# Altium footprint library Devindia_v2.0.PcbLib: 105 footprints (part 7 of 7)
Each footprint in its own frame and in the unit in brackets; x right, y up, seen from the top. Pads: shape width x height; smd on the part's side, far side on the other; paste and mask are expansions set on the pad; w line width, h text height; cw(c..) or ccw(c..) is an arc to the next point about the centre after c.
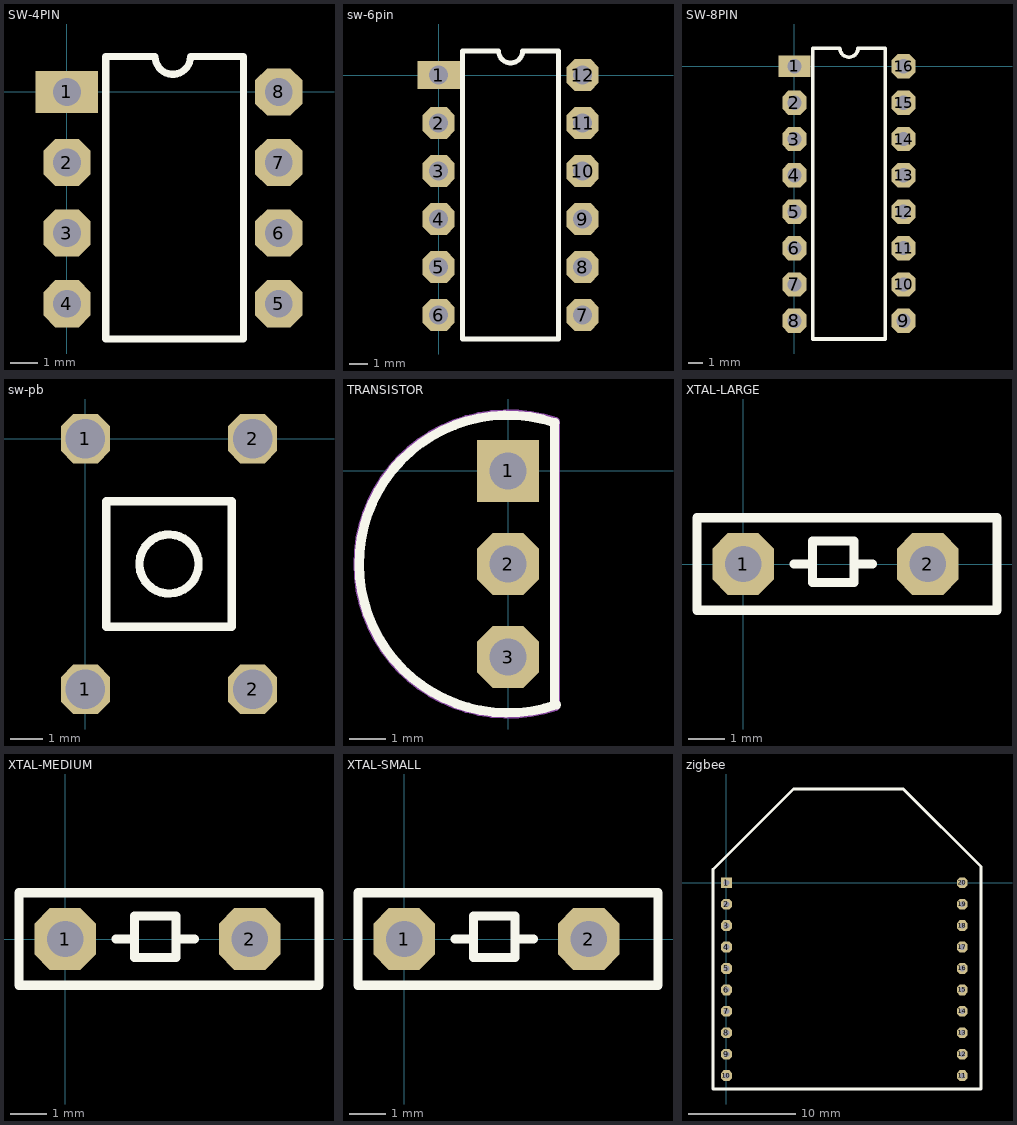
[diagram p6: the footprints below, top view; thin cyan lines are the x and y axes]

## SW-4PIN [mm]
pads (8):
  rect 2.25x1.5 hole 1: 1(0,0)
  oct 1.7x1.7 hole 1: 2(0,-2.54) 3(0,-5.08) 4(0,-7.62) 5(7.62,-7.62) 6(7.62,-5.08) 7(7.62,-2.54) 8(7.62,0)
Top Overlay:
  lines w0.254: 1.397,-8.89 6.35,-8.89 6.35,1.27 4.445,1.27 cw(c3.81,1.27) 3.175,1.27 1.397,1.27 1.397,-8.89
3D body: height 3, standoff 1, extent 1.27,-8.763 6.35,1.397
3D body: height 4, standoff 1, extent 2.794,-3.048 4.826,-2.286
3D body: height 4, standoff 1, extent 2.794,-0.762 4.826,0
3D body: height 4, standoff 1, extent 2.794,-7.874 4.826,-7.112
3D body: height 4, standoff 1, extent 2.794,-5.588 4.826,-4.826
3D body: height 4.5, standoff 4, extent 3.429,-0.508 4.191,-0.254
3D body: height 4.5, standoff 4, extent 3.429,-2.794 4.191,-2.54
3D body: height 4.5, standoff 4, extent 3.429,-5.334 4.191,-5.08
3D body: height 4.5, standoff 4, extent 3.429,-7.62 4.191,-7.366

## sw-6pin [mm]
pads (12):
  rect 2.25x1.5 hole 1: 1(0,0)
  oct 1.7x1.7 hole 1: 2(0,-2.54) 3(0,-5.08) 4(0,-7.62) 5(0,-10.16) 6(0,-12.7) 7(7.62,-12.7) 8(7.62,-10.16) 9(7.62,-7.62) 10(7.62,-5.08) 11(7.62,-2.54) 12(7.62,0)
Top Overlay:
  lines w0.254: 1.27,-13.97 1.27,1.27 3.175,1.27 ccw(c3.81,1.27) 4.445,1.27 6.35,1.27 6.35,-13.97 1.27,-13.97
3D body: height 4.5, standoff 4, extent 3.429,-12.7 4.191,-12.446
3D body: height 4.5, standoff 4, extent 3.429,-10.414 4.191,-10.16
3D body: height 4.5, standoff 4, extent 3.429,-7.62 4.191,-7.366
3D body: height 4.5, standoff 4, extent 3.429,-5.08 4.191,-4.826
3D body: height 4.5, standoff 4, extent 3.429,-2.54 4.191,-2.286
3D body: height 4.5, standoff 4, extent 3.429,-0.254 4.191,0
3D body: height 4, standoff 1, extent 2.794,-7.874 4.826,-7.112
3D body: height 3, standoff 1, extent 1.27,-13.97 6.35,1.27
3D body: height 3, standoff 1, extent 6.35,-0.508 7.62,0.508
3D body: height 3, standoff 1, extent 6.35,-3.048 7.62,-2.032
3D body: height 3, standoff 1, extent 6.35,-5.588 7.62,-4.572
3D body: height 3, standoff 1, extent 6.35,-8.128 7.62,-7.112
3D body: height 3, standoff 0, extent 7.132,-0.499 8.128,0.499
3D body: height 3, standoff 0, extent 7.132,-3.039 8.128,-2.041
3D body: height 3, standoff 0, extent 7.132,-5.579 8.128,-4.581
3D body: height 3, standoff 0, extent 7.132,-8.119 8.128,-7.121
3D body: height 4, standoff 1, extent 2.794,-2.794 4.826,-2.032
3D body: height 4, standoff 1, extent 2.794,-0.508 4.826,0.254
3D body: height 4, standoff 1, extent 2.794,-5.334 4.826,-4.572
3D body: height 3, standoff 1, extent 6.35,-10.668 7.62,-9.652
3D body: height 3, standoff 0, extent 7.132,-10.659 8.128,-9.661
3D body: height 3, standoff 1, extent 6.35,-13.208 7.62,-12.192
3D body: height 3, standoff 0, extent 7.132,-13.199 8.128,-12.201
3D body: height 3, standoff 1, extent 0,-13.208 1.27,-12.192
3D body: height 3, standoff 0, extent -0.488,-13.199 0.508,-12.201
3D body: height 3, standoff 1, extent 0,-10.668 1.27,-9.652
3D body: height 3, standoff 0, extent -0.488,-10.659 0.508,-9.661
3D body: height 3, standoff 1, extent 0,-8.128 1.27,-7.112
3D body: height 3, standoff 0, extent -0.488,-8.119 0.508,-7.121
3D body: height 3, standoff 1, extent 0,-5.588 1.27,-4.572
3D body: height 3, standoff 0, extent -0.488,-5.579 0.508,-4.581
3D body: height 3, standoff 1, extent 0,-3.048 1.27,-2.032
3D body: height 3, standoff 0, extent -0.488,-3.039 0.508,-2.041
3D body: height 3, standoff 0, extent -0.488,-0.499 0.508,0.499
3D body: height 3, standoff 1, extent 0,-0.508 1.27,0.508
3D body: height 4, standoff 1, extent 2.794,-12.954 4.826,-12.192
3D body: height 4, standoff 1, extent 2.794,-10.668 4.826,-9.906

## SW-8PIN [mm]
pads (16):
  rect 2.25x1.5 hole 1: 1(0,0)
  oct 1.7x1.7 hole 1: 2(0,-2.54) 3(0,-5.08) 4(0,-7.62) 5(0,-10.16) 6(0,-12.7) 7(0,-15.24) 8(0,-17.78) 9(7.62,-17.78) 10(7.62,-15.24) 11(7.62,-12.7) 12(7.62,-10.16) 13(7.62,-7.62) 14(7.62,-5.08) 15(7.62,-2.54) 16(7.62,0)
Top Overlay:
  lines w0.254: 1.27,-19.05 1.27,1.27 3.175,1.27 ccw(c3.81,1.27) 4.445,1.27 6.35,1.27 6.35,-19.05 1.27,-19.05
3D body: height 4.5, standoff 4, extent 3.429,-17.78 4.191,-17.526
3D body: height 4.5, standoff 4, extent 3.429,-15.494 4.191,-15.24
3D body: height 4.5, standoff 4, extent 3.429,-12.7 4.191,-12.446
3D body: height 4.5, standoff 4, extent 3.429,-10.414 4.191,-10.16
3D body: height 4.5, standoff 4, extent 3.429,-7.62 4.191,-7.366
3D body: height 4.5, standoff 4, extent 3.429,-5.08 4.191,-4.826
3D body: height 4.5, standoff 4, extent 3.429,-2.54 4.191,-2.286
3D body: height 4.5, standoff 4, extent 3.429,-0.254 4.191,0
3D body: height 4, standoff 1, extent 2.794,-18.034 4.826,-17.272
3D body: height 4, standoff 1, extent 2.794,-7.874 4.826,-7.112
3D body: height 3, standoff 1, extent 1.27,-19.05 6.35,1.27
3D body: height 3, standoff 1, extent 6.35,-0.508 7.62,0.508
3D body: height 3, standoff 1, extent 6.35,-3.048 7.62,-2.032
3D body: height 3, standoff 1, extent 6.35,-5.588 7.62,-4.572
3D body: height 3, standoff 1, extent 6.35,-8.128 7.62,-7.112
3D body: height 3, standoff 0, extent 7.132,-0.499 8.128,0.499
3D body: height 3, standoff 0, extent 7.132,-3.039 8.128,-2.041
3D body: height 3, standoff 0, extent 7.132,-5.579 8.128,-4.581
3D body: height 3, standoff 0, extent 7.132,-8.119 8.128,-7.121
3D body: height 4, standoff 1, extent 2.794,-2.794 4.826,-2.032
3D body: height 4, standoff 1, extent 2.794,-0.508 4.826,0.254
3D body: height 4, standoff 1, extent 2.794,-5.334 4.826,-4.572
3D body: height 3, standoff 1, extent 6.35,-10.668 7.62,-9.652
3D body: height 3, standoff 0, extent 7.132,-10.659 8.128,-9.661
3D body: height 3, standoff 1, extent 6.35,-13.208 7.62,-12.192
3D body: height 3, standoff 0, extent 7.132,-13.199 8.128,-12.201
3D body: height 3, standoff 1, extent 6.35,-15.748 7.62,-14.732
3D body: height 3, standoff 0, extent 7.132,-15.739 8.128,-14.741
3D body: height 3, standoff 1, extent 6.35,-18.288 7.62,-17.272
3D body: height 3, standoff 0, extent 7.132,-18.279 8.128,-17.281
3D body: height 3, standoff 1, extent 0,-18.288 1.27,-17.272
3D body: height 3, standoff 0, extent -0.488,-18.279 0.508,-17.281
3D body: height 3, standoff 1, extent 0,-15.748 1.27,-14.732
3D body: height 3, standoff 0, extent -0.488,-15.739 0.508,-14.741
3D body: height 3, standoff 1, extent 0,-13.208 1.27,-12.192
3D body: height 3, standoff 0, extent -0.488,-13.199 0.508,-12.201
3D body: height 3, standoff 1, extent 0,-10.668 1.27,-9.652
3D body: height 3, standoff 0, extent -0.488,-10.659 0.508,-9.661
3D body: height 3, standoff 1, extent 0,-8.128 1.27,-7.112
3D body: height 3, standoff 0, extent -0.488,-8.119 0.508,-7.121
3D body: height 3, standoff 1, extent 0,-5.588 1.27,-4.572
3D body: height 3, standoff 0, extent -0.488,-5.579 0.508,-4.581
3D body: height 3, standoff 1, extent 0,-3.048 1.27,-2.032
3D body: height 3, standoff 0, extent -0.488,-3.039 0.508,-2.041
3D body: height 3, standoff 0, extent -0.488,-0.499 0.508,0.499
3D body: height 3, standoff 1, extent 0,-0.508 1.27,0.508
3D body: height 4, standoff 1, extent 2.794,-12.954 4.826,-12.192
3D body: height 4, standoff 1, extent 2.794,-10.668 4.826,-9.906
3D body: height 4, standoff 1, extent 2.794,-15.748 4.826,-14.986

## sw-pb [mm]
pads (4):
  oct 1.5x1.5 hole 1.2: 1(0,-7.62) 1(0,0) 2(5.08,-7.62) 2(5.08,0)
Top Overlay:
  circle w0.254: c2.54,-3.81 r0.898
  lines w0.254: 0.635,-5.715 0.635,-1.905 4.445,-1.905 4.445,-5.715 0.635,-5.715
3D body: height 4, standoff 1, extent -0.762,-2.54 1.524,0.762
3D body: height 4, standoff 1, extent 3.81,-2.54 5.588,0.508
3D body: height 4, standoff 1, extent 3.556,-8.382 5.842,-5.08
3D body: height 4, standoff 1, extent -0.508,-8.128 1.27,-5.08
3D body: height 4, standoff 0, extent -0.498,-8.11 0.498,-7.112
3D body: height 4, standoff 0, extent 4.582,-8.11 5.578,-7.112
3D body: height 4, standoff 0, extent 4.582,-0.49 5.578,0.508
3D body: height 4, standoff 1, extent 0.508,-5.842 4.572,-1.778
3D body: height 5.5, standoff 1, extent 1.524,-4.826 3.548,-2.798
3D body: height 4, standoff 0, extent -0.498,-0.49 0.498,0.508

## TRANSISTOR [mm]
pads (3):
  rect 1.7x1.7 hole 1: 1(0,0)
  oct 1.7x1.7 hole 1: 2(0,-2.54) 3(0,-5.08)
Top Overlay:
  lines w0.254: 1.27,-6.35 1.27,0.635 1.27,1.27 ; 1.285,1.315 ccw(c0,-2.54) 1.325,-6.382
Mechanical 1:
  lines w0.254: 1.295,-6.425 cw(c0,-2.54) 1.295,1.345 1.295,-6.425
3D body: height 3, standoff 0, extent -0.498,-5.588 0.498,-4.59
3D body: height 3, standoff 0, extent -0.498,-3.048 0.498,-2.05
3D body: height 3, standoff 0, extent -0.498,-0.508 0.498,0.49
3D body: height 7, standoff 3, extent -4.109,-6.649 1.299,1.569

## XTAL-LARGE [mm]
pads (2):
  oct 1.7x1.7 hole 1: 1(0,0) 2(5.08,0)
Top Overlay:
  lines w0.254: 1.397,0 1.905,0 ; 3.048,0 3.556,0 ; -1.27,-1.27 -1.27,1.27 6.985,1.27 6.985,-1.27 -1.27,-1.27 ; 1.905,-0.508 1.905,0.635 3.048,0.635 3.048,-0.508 1.905,-0.508
3D body: height 0.3, standoff 0, extent 3.483,-2.191 7.874,2.191
3D body: height 0.3, standoff 0, extent -2.069,-2.224 2.323,2.159
3D body: height 0.3, standoff 0, extent 0,-2.25 6.1,2.159
3D body: height 13.15, standoff 0.3, extent -1.715,-1.743 1.778,1.743
3D body: height 13.15, standoff 0.3, extent 3.873,-1.743 7.366,1.743
3D body: height 13.1, standoff 0.3, extent -0.254,-1.778 5.334,1.778

## XTAL-MEDIUM [mm]
pads (2):
  oct 1.7x1.7 hole 1: 1(0,0) 2(5.08,0)
Top Overlay:
  lines w0.254: 1.397,0 1.905,0 ; 3.048,0 3.556,0 ; -1.27,-1.27 6.985,-1.27 6.985,1.27 -1.27,1.27 -1.27,-1.27 ; 1.905,-0.508 3.048,-0.508 3.048,0.635 1.905,0.635 1.905,-0.508
3D body: height 3.6, standoff 0.3, extent -0.254,-1.778 5.334,1.778
3D body: height 3.63, standoff 0.3, extent 3.873,-1.743 7.366,1.743
3D body: height 3.63, standoff 0.3, extent -1.715,-1.743 1.778,1.743
3D body: height 0.3, standoff 0, extent 0,-2.224 6.096,2.159
3D body: height 0.3, standoff 0, extent -2.069,-2.224 2.323,2.159
3D body: height 0.3, standoff 0, extent 3.483,-2.191 7.874,2.191

## XTAL-SMALL [mm]
pads (2):
  oct 1.7x1.7 hole 1: 1(0,0) 2(5.08,0)
Top Overlay:
  lines w0.254: 1.397,0 1.905,0 ; 3.048,0 3.556,0 ; -1.27,-1.27 6.985,-1.27 6.985,1.27 -1.27,1.27 -1.27,-1.27 ; 1.905,-0.508 3.048,-0.508 3.048,0.635 1.905,0.635 1.905,-0.508
3D body: height 3.6, standoff 0.3, extent -0.254,-1.75 5.6,1.75
3D body: height 3.63, standoff 0.3, extent 3.873,-1.743 7.366,1.743
3D body: height 3.63, standoff 0.3, extent -1.715,-1.743 1.778,1.743
3D body: height 0.3, standoff 0, extent 0,-2.225 6.1,2.159
3D body: height 0.3, standoff 0, extent -2.069,-2.224 2.323,2.159
3D body: height 0.3, standoff 0, extent 3.429,-2.225 7.821,2.158

## zigbee [mm]
pads (20):
  rect 1x1 hole 0.53: 1(0,0)
  oct 1x1 hole 0.53: 2(0,-2) 3(0,-4) 4(0,-6) 5(0,-8) 6(0,-10) 7(0,-12) 8(0,-14) 9(0,-16) 10(0,-18) 11(22,-18) 12(22,-16) 13(22,-14) 14(22,-12) 15(22,-10) 16(22,-8) 17(22,-6) 18(22,-4) 19(22,-2) 20(22,0)
Top Overlay:
  lines w0.254: -1.25,-19.25 -1.25,1.25 6.25,8.75 12.5,8.75 16.5,8.75 23.75,1.5 23.75,-19.25 -1.25,-19.25
3D body: height 2, standoff 1, extent 1.5,-18.5 20.5,1
3D body: height 4.01, standoff 4, extent 9.5,4 10.5,5
3D body: height 4.01, standoff 4, extent 12.5,4 13.5,5
3D body: height 4.01, standoff 4, extent 12.5,6.5 13.5,7.5
3D body: height 4.01, standoff 4, extent 9.5,6.5 10.5,7.5
3D body: height 2, standoff 0, extent 21.75,-0.25 22.289,0.288
3D body: height 2, standoff 0, extent 21.75,-2.25 22.289,-1.712
3D body: height 2, standoff 0, extent 21.75,-4.25 22.289,-3.712
3D body: height 2, standoff 0, extent 21.75,-6.25 22.289,-5.712
3D body: height 2, standoff 0, extent 21.75,-8.25 22.289,-7.712
3D body: height 2, standoff 0, extent 21.75,-10.25 22.289,-9.712
3D body: height 2, standoff 0, extent 21.75,-12.25 22.289,-11.712
3D body: height 2, standoff 0, extent 21.75,-14.25 22.289,-13.712
3D body: height 2, standoff 0, extent 21.75,-16.25 22.289,-15.712
3D body: height 2, standoff 0, extent 21.75,-18.25 22.289,-17.712
3D body: height 2, standoff 0, extent -0.25,-18.25 0.289,-17.712
3D body: height 2, standoff 0, extent -0.25,-16.25 0.289,-15.712
3D body: height 2, standoff 0, extent -0.25,-14.25 0.289,-13.712
3D body: height 2, standoff 0, extent -0.25,-12.25 0.289,-11.712
3D body: height 2, standoff 0, extent -0.25,-10.25 0.289,-9.712
3D body: height 2, standoff 0, extent -0.25,-8.25 0.289,-7.712
3D body: height 2, standoff 0, extent -0.25,-6.25 0.289,-5.712
3D body: height 2, standoff 0, extent -0.25,-4.25 0.289,-3.712
3D body: height 2, standoff 0, extent -0.25,-2.25 0.289,-1.712
3D body: height 2, standoff 0, extent -0.25,-0.25 0.289,0.288
3D body: height 4, standoff 2, extent -1.25,-19.25 23.75,8.75
3D body: height 5, standoff 4.2, extent 12.6,-15.5 13.397,4.5
3D body: height 5.2, standoff 4, extent 12.4,-16.6 13.595,-12.6
3D body: height 5.2, standoff 4, extent 12.4,-17.1 13.594,-15.905